# Altium schematic symbol library osc_xtal_2p_0.Schlib: 1 symbol
Pins are listed as number, name and electrical type; pins without a type are passive.

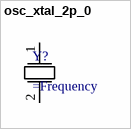
[diagram p0: symbol osc_xtal_2p_0]

## osc_xtal_2p_0
designator Y?
Crystal Oscillator, 2 pin
pins: 1 20, 2 20